# EAGLE library part BLUETOOTH (library Bluetooth)
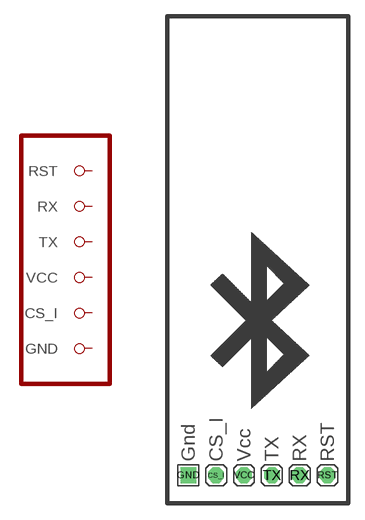
[diagram p0: symbol with the pads of BLUETOOTH; footprint BLUETOOTH]

Designator prefix -

## BLUETOOTH  [BLUETOOTH]
CS_I  CS_I  nc
GND  GND  pwr
RST  RST  nc
RX  RX  in
TX  TX  out
VCC  VCC  pwr

## Footprint BLUETOOTH (pad centres in mm)
drill 0.8 pad 1.422 octagon: CS_I -3.81,-5.08; RST 6.35,-5.08; RX 3.81,-5.08; TX 1.27,-5.08; VCC -1.27,-5.08
drill 0.8 pad 1.422 square: GND -6.35,-5.08